# Altium schematic symbol library B105digital_ic.SchLib: 36 symbols (part 2 of 4)
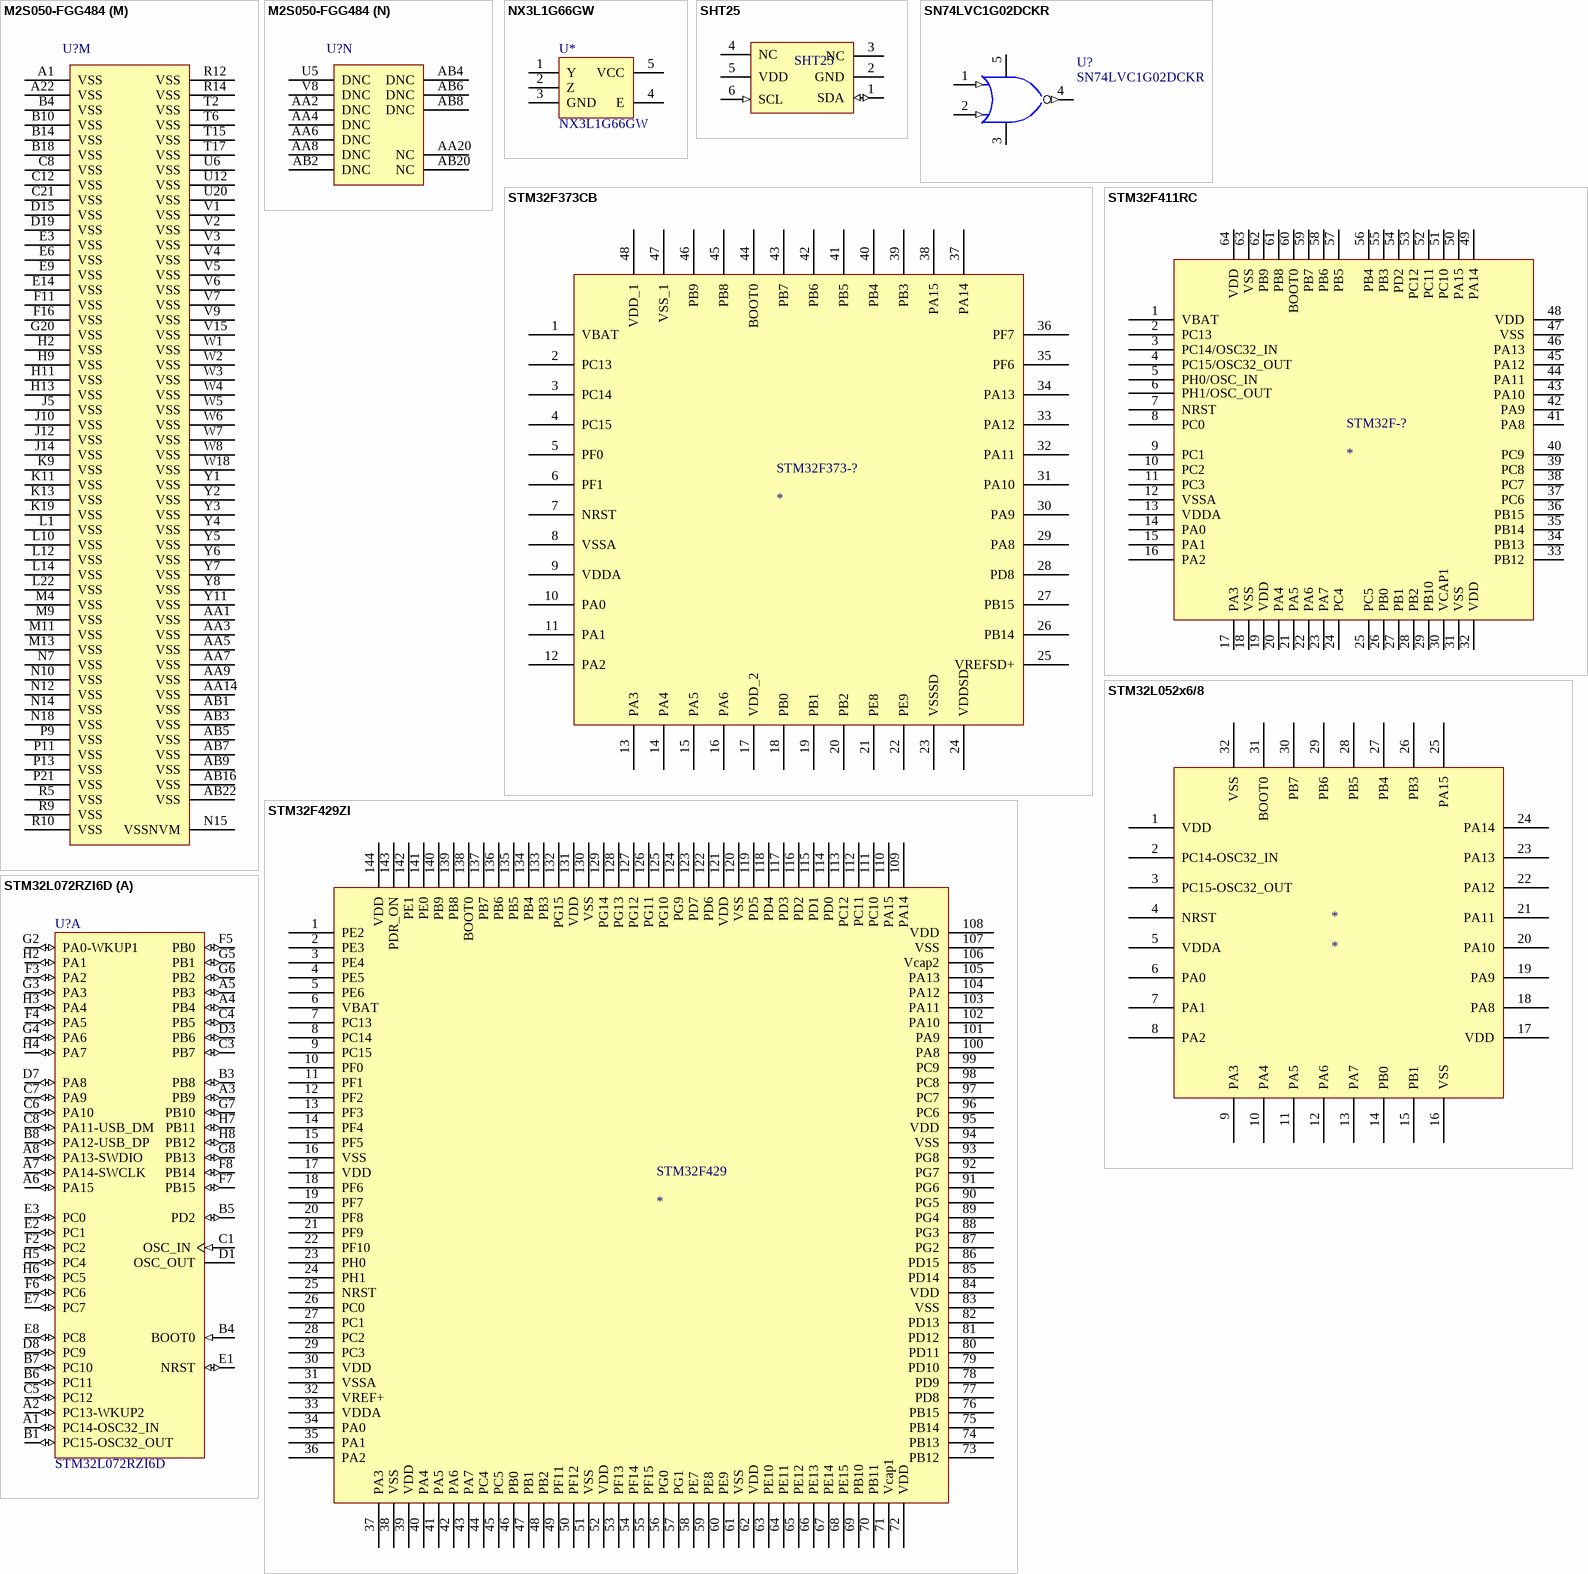
[diagram p5: symbols M2S050-FGG484 to STM32L072RZI6D]
## M2S050-FGG484
designator U?
SmartFusion 2 SoC FPGA, ARM Cortex-M3, 50 K LUTs, 267 User I/O, Design Security, 0 to 85 degC, 484-Ball BGA, RoHS; Manufacturer: Microsemi; PartNumber: M2S050-FGG484; DDR Controllers (Count x Width): 2x36; eNVM (K Bytes): 256; eSRAM (K Bytes): 64; eSRAM (K Bytes) Non SECDED: 80; Math Blocks (18x18): 72; Maximum Logic Elements: 56,340; PLLs and CCCs: 6; SERDES Lanes: 8; Total RAM (K bits): 1314; Total User I/O: 267; DatasheetVersion: Rev. 4; PackageVersion: Rev. 48, 11/2013; PackageReference: FG-484; PackageDescription: 484-Ball Fine Pitch Ball Array Package, Body 23 x 23 mm, Pitch 1 mm; RoHS: TRUE; Temperature Range: 0 to 85 degC; Mounting Technology: Surface Mount; ComponentLink1Description: Manufacturer URL; ComponentLink1URL: http://www.microsemi.com/; ComponentLink2Description: Datasheet; ComponentLink2URL: http://www.microsemi.com/document-portal/doc_download/130717-smartfusion2-datasheet; ComponentLink3Description: Package Specification; ComponentLink3URL: http://www.microsemi.com/document-portal/doc_download/131095-package-mechanical-drawings
footprint MCSM-FG-484 (BGA, 484-Balls, Body 23x23mm, Pitch 1mm)
part A pins: A3 DDRIO72NB0 (io) "The double data input output (DDRIO) is a multi-standard I/O optimized for LPDDR/DDR2/DDR3 performance. In SmartFusion2 devices there are two DDR subsystems: the fabric DDR and MSS DDR controllers. All DDRIOs can be (See Datasheet)", A4 DDRIO72PB0 (io) "The double data input output (DDRIO) is a multi-standard I/O optimized for LPDDR/DDR2/DDR3 performance. In SmartFusion2 devices there are two DDR subsystems: the fabric DDR and MSS DDR controllers. All DDRIOs can be (See Datasheet)", A5 DDRIO67NB0 (io) "The double data input output (DDRIO) is a multi-standard I/O optimized for LPDDR/DDR2/DDR3 performance. In SmartFusion2 devices there are two DDR subsystems: the fabric DDR and MSS DDR controllers. All DDRIOs can be (See Datasheet)", A6 DDRIO66NB0 (io) "The double data input output (DDRIO) is a multi-standard I/O optimized for LPDDR/DDR2/DDR3 performance. In SmartFusion2 devices there are two DDR subsystems: the fabric DDR and MSS DDR controllers. All DDRIOs can be (See Datasheet)", A7 DDRIO87PB0/CCC_NW1_CLKI3/MDDR_DQ_ECC1 (io), A8 DDRIO87NB0/MDDR_DQ_ECC0 (io), A9 DDRIO86NB0/MDDR_DQ1 (io), A10 DDRIO83PB0/MDDR_DM_RDQS0 (io), A11 DDRIO83NB0/MDDR_DQ4 (io), A12 DDRIO80PB0/MDDR_DQ8 (io), A13 DDRIO80NB0/MDDR_DQ9 (io), A14 DDRIO76PB0/GB12/CCC_NE1_CLKI2/MDDR_DQ12 (io), A15 DDRIO76NB0/MDDR_DQ13 (io), A16 DDRIO59PB0/MDDR_CLK (io), A17 DDRIO59NB0/MDDR_CLK_N (io), A18 DDRIO58PB0/MDDR_BA0 (io), A19 DDRIO58NB0/MDDR_BA1 (io), A20 DDRIO54NB0/MDDR_ADDR6 (io), A21 DDRIO51PB0/MDDR_ADDR10 (io), B5 DDRIO67PB0 (io) "The double data input output (DDRIO) is a multi-standard I/O optimized for LPDDR/DDR2/DDR3 performance. In SmartFusion2 devices there are two DDR subsystems: the fabric DDR and MSS DDR controllers. All DDRIOs can be (See Datasheet)", B6 DDRIO66PB0 (io) "The double data input output (DDRIO) is a multi-standard I/O optimized for LPDDR/DDR2/DDR3 performance. In SmartFusion2 devices there are two DDR subsystems: the fabric DDR and MSS DDR controllers. All DDRIOs can be (See Datasheet)", B7 DDRIO90NB0/MDDR_DQS_ECC_N (io), B9 DDRIO86PB0/MDDR_DQ0 (io), B11 DDRIO84PB0/MDDR_DQS0 (io), B13 DDRIO78PB0/GB8/CCC_NE0_CLKI3/MDDR_DQS1 (io), B15 DDRIO61PB0/MDDR_CKE (io), B17 DDRIO57NB0/MDDR_ADDR0 (io), B19 DDRIO54PB0/MDDR_ADDR5 (io), B21 DDRIO51NB0/MDDR_ADDR11 (io), C5 DDRIO74PB0 (io) "The double data input output (DDRIO) is a multi-standard I/O optimized for LPDDR/DDR2/DDR3 performance. In SmartFusion2 devices there are two DDR subsystems: the fabric DDR and MSS DDR controllers. All DDRIOs can be (See Datasheet)", C7 DDRIO90PB0/MDDR_DQS_ECC (io), C9 DDRIO88NB0 (io) "The double data input output (DDRIO) is a multi-standard I/O optimized for LPDDR/DDR2/DDR3 performance. In SmartFusion2 devices there are two DDR subsystems: the fabric DDR and MSS DDR controllers. All DDRIOs can be (See Datasheet)", C11 DDRIO84NB0/MDDR_DQS0_N (io), C13 DDRIO78NB0/MDDR_DQS1_N (io), C15 DDRIO61NB0/MDDR_CS_N (io), C16 DDRIO57PB0/MDDR_BA2 (io), C17 DDRIO55PB0/MDDR_ADDR3 (io), C18 DDRIO55NB0/MDDR_ADDR4 (io), C19 DDRIO53NB0/MDDR_ADDR7 (io), C20 DDRIO53PB0/MDDR_ODT (io), D6 DDRIO74NB0 (io) "The double data input output (DDRIO) is a multi-standard I/O optimized for LPDDR/DDR2/DDR3 performance. In SmartFusion2 devices there are two DDR subsystems: the fabric DDR and MSS DDR controllers. All DDRIOs can be (See Datasheet)", D8 DDRIO89NB0/MDDR_DM_RDQS_ECC (io), D9 DDRIO88PB0 (io) "The double data input output (DDRIO) is a multi-standard I/O optimized for LPDDR/DDR2/DDR3 performance. In SmartFusion2 devices there are two DDR subsystems: the fabric DDR and MSS DDR controllers. All DDRIOs can be (See Datasheet)", D10 DDRIO82PB0/MDDR_DQ5 (io), D11 DDRIO82NB0/MDDR_DQ6 (io), D12 DDRIO79PB0/CCC_NE0_CLKI2/MDDR_DQ10 (io), D13 DDRIO79NB0/MDDR_DQ11 (io), D14 DDRIO75PB0/CCC_NE1_CLKI3/MDDR_DQ14 (io), D16 DDRIO56PB0/MDDR_ADDR1 (io), D18 DDRIO49PB0/MDDR_ADDR14 (io), D20 DDRIO50NB0/MDDR_ADDR13 (io), E7 DDRIO92PB0/MDDR_TMATCH_ECC_OUT (io), E8 DDRIO89PB0/MDDR_TMATCH_ECC_IN (io), E10 DDRIO85NB0/MDDR_DQ3 (io), E12 DDRIO81PB0/MDDR_DQ7 (io), E13 DDRIO75NB0/MDDR_DQ15 (io), E15 DDRIO60PB0/MDDR_RESET_N (io), E16 DDRIO56NB0/MDDR_ADDR2 (io), E17 DDRIO52PB0/MDDR_ADDR8 (io), E18 DDRIO49NB0/MDDR_ADDR15 (io), E19 DDRIO50PB0/MDDR_ADDR12 (io), F8 DDRIO92NB0/CCC_NW0_CLKI2 (io), F10 DDRIO85PB0/MDDR_DQ2 (io), F12 DDRIO81NB0/MDDR_TMATCH_0_OUT (io), F14 DDRIO62PB0/MDDR_RAS_N (io), F15 DDRIO60NB0/MDDR_CAS_N (io), F17 DDRIO52NB0/MDDR_ADDR9 (io), G12 DDRIO77PB0/MDDR_TMATCH_0_IN (io), G13 DDRIO77NB0/MDDR_DM_RDQS1 (io), G14 DDRIO62NB0/MDDR_WE_N (io)
part B pins: B22 MSIO47NB1/MMUART_0_CLK/GPIO_29_B (io), C22 MSIO47PB1/MMUART_0_RXD/GPIO_28_B (io), D21 MSI46NB1/MMUART_0_TXD/GPIO_27_B (io), E21 MSIO45NB1/MMUART_0_DCD/GPIO_22_B (io), E22 MSIO45PB1/MMUART_0_RI/GPIO_21_B (io), F18 MSIO44NB1/MMUART_0_DSR/GPIO_20_B (io), F19 MSIO44PB1/MMUART_0_CTS/GPIO_19_B (io), F20 MSIO43NB1/MMUART_0_DTR/GPIO_18_B (io), F21 MSIO43PB1/MMUART_0_RTS/GPIO_17_B (io), G16 MSIO48NB1/I2C_0_SCL/GPIO_31_B (io), G17 MSIO48PB1/I2C_0_SDA/GPIO_30_B (io), G18 MSIO42NB1/MMUART_1_RXD/GPIO_26_B (io), G19 MSIO42PB1/GB14/VCCC_SE1_CLKI/MMUART_1_CLK/GPIO_25_B (io), G21 MSIO40NB1/MMUART_1_DCD/GPIO_16_B (io), G22 MSIO40PB1/CCC_NE1_CLKI1/MMUART_1_RI/GPIO_15_B (io), H19 MSIO41NB1/MMUART_1_TXD/GPIO_24_B (io), H20 MSIO41PB1/GB10/VCCC_SE0_CLKI (io), H21 MSIO38NB1/MMUART_1_DTR/GPIO_12_B (io), H22 MSIO38PB1/MMUART_1_RTS/GPIO_11_B (io), J19 MSIO39NB1/MMUART_1_DSR/GPIO_14_B (io), J20 MSIO39PB1/CCC_NE0_CLKI1/MMUART_1_CTS/GPIO_13_B (io)
part C pins: J18 MSIO24NB3/SPI_1_SS3/GPIO_16_A (io), J22 MSIO20NB3/GB13/VCCC_SE1_CLKI/GPIO_26_A (io), K15 MSIO22NB3/SPI_0_SS2/GPIO_9_A (io), K16 MSIO23NB3/SPI_1_SS1/GPIO_14_A (io), K17 MSIO23PB3/SPI_0_SS3/GPIO_10_A (io), K18 MSIO24PB3/SPI_1_SS2/GPIO_15_A (io), K20 MSIO19NB3/SPI_1_SS7/GPIO_24_A (io), K21 MSIO19PB3/SPI_1_SS6/GPIO_23_A (io), K22 MSIO20PB3/GB9/VCCC_SE0_CLKI/GPIO_25_A (io), L16 MSIO22PB3/SPI_0_SS1/GPIO_8_A (io), L18 MSIO18NB3/SPI_1_SS5/GPIO_18_A (io), L19 MSIO18PB3/SPI_1_SS4/GPIO_17_A (io), L20 MSIO17NB3/SPI_1_SS0/GPIO_13_A (io), L21 MSIO17PB3/SPI_1_SDO/GPIO_12_A (io), M16 MSIO14PB3/SPI_0_SS4/GPIO_19_A (io), M17 MSIO14NB3/SPI_0_SS5/GPIO_20_A (io), M18 MSIO15PB3/SPI_0_SS6/GPIO_21_A (io), M19 MSIO15NB3/SPI_0_SS7/GPIO_22_A (io), M21 MSIO16PB3/SPI_1_CLK (io), M22 MSIO16NB3/SPI_1_SDI/GPIO_11_A (io), N16 MSIO8PB3/CAN_RX/GPIO_3_A (io), N17 MSIO8NB3/CAN_TX_EN_N/GPIO_4_A (io), N19 MSIO12PB3/SPI_0_CLK (io), N20 MSIO12NB3/SPI_0_SDI/GPIO_5_A (io), N21 MSIO13PB3/SPI_0_SDO/GPIO_6_A (io), N22 MSIO13NB3/SPI_0_SS0/GPIO_7_A (io), P16 MSIO7NB3/CAN_TX/GPIO_2_A (io), P17 MSIO6PB3 (io) "MSIOs provide programmable drive strength, weak pull-up, and weak-pulldown. In single ended mode, the I/O pair operates as two separate I/Os named P and N. Some of these pins are also multiplexed with integrated peripherals (See Datasheet)", P18 MSIO6NB3 (io) "MSIOs provide programmable drive strength, weak pull-up, and weak-pulldown. In single ended mode, the I/O pair operates as two separate I/Os named P and N. Some of these pins are also multiplexed with integrated peripherals (See Datasheet)", P22 MSIO11PB3/CCC_NE0_CLKI0/I2C_1_SDA/GPIO_0_A (io), R16 MSIO7PB3 (io) "MSIOs provide programmable drive strength, weak pull-up, and weak-pulldown. In single ended mode, the I/O pair operates as two separate I/Os named P and N. Some of these pins are also multiplexed with integrated peripherals (See Datasheet)", R17 MSIO1PB3 (io) "MSIOs provide programmable drive strength, weak pull-up, and weak-pulldown. In single ended mode, the I/O pair operates as two separate I/Os named P and N. Some of these pins are also multiplexed with integrated peripherals (See Datasheet)", R18 MSIO1NB3 (io) "MSIOs provide programmable drive strength, weak pull-up, and weak-pulldown. In single ended mode, the I/O pair operates as two separate I/Os named P and N. Some of these pins are also multiplexed with integrated peripherals (See Datasheet)", R22 MSIO11NB3/CCC_NE1_CLKI0/I2C_1_SCL/GPIO_1_A (io), T18 MSIO2PB3 (io) "MSIOs provide programmable drive strength, weak pull-up, and weak-pulldown. In single ended mode, the I/O pair operates as two separate I/Os named P and N. Some of these pins are also multiplexed with integrated peripherals (See Datasheet)", T19 MSIO2NB3 (io) "MSIOs provide programmable drive strength, weak pull-up, and weak-pulldown. In single ended mode, the I/O pair operates as two separate I/Os named P and N. Some of these pins are also multiplexed with integrated peripherals (See Datasheet)", T20 MSIO5PB3 (io) "MSIOs provide programmable drive strength, weak pull-up, and weak-pulldown. In single ended mode, the I/O pair operates as two separate I/Os named P and N. Some of these pins are also multiplexed with integrated peripherals (See Datasheet)", T21 MSIO5NB3 (io) "MSIOs provide programmable drive strength, weak pull-up, and weak-pulldown. In single ended mode, the I/O pair operates as two separate I/Os named P and N. Some of these pins are also multiplexed with integrated peripherals (See Datasheet)", U19 MSIO0PB3 (io) "MSIOs provide programmable drive strength, weak pull-up, and weak-pulldown. In single ended mode, the I/O pair operates as two separate I/Os named P and N. Some of these pins are also multiplexed with integrated peripherals (See Datasheet)", U21 MSIO4NB3 (io) "MSIOs provide programmable drive strength, weak pull-up, and weak-pulldown. In single ended mode, the I/O pair operates as two separate I/Os named P and N. Some of these pins are also multiplexed with integrated peripherals (See Datasheet)", U22 MSIO4PB3 (io) "MSIOs provide programmable drive strength, weak pull-up, and weak-pulldown. In single ended mode, the I/O pair operates as two separate I/Os named P and N. Some of these pins are also multiplexed with integrated peripherals (See Datasheet)", V19 MSIO0NB3 (io) "MSIOs provide programmable drive strength, weak pull-up, and weak-pulldown. In single ended mode, the I/O pair operates as two separate I/Os named P and N. Some of these pins are also multiplexed with integrated peripherals (See Datasheet)", V21 MSIO3NB3 (io) "MSIOs provide programmable drive strength, weak pull-up, and weak-pulldown. In single ended mode, the I/O pair operates as two separate I/Os named P and N. Some of these pins are also multiplexed with integrated peripherals (See Datasheet)", V22 MSIO3PB3 (io) "MSIOs provide programmable drive strength, weak pull-up, and weak-pulldown. In single ended mode, the I/O pair operates as two separate I/Os named P and N. Some of these pins are also multiplexed with integrated peripherals (See Datasheet)"
part D pins: AA10 DDRIO149PB5 (io) "The double data input output (DDRIO) is a multi-standard I/O optimized for LPDDR/DDR2/DDR3 performance. In SmartFusion2 devices there are two DDR subsystems: the fabric DDR and MSS DDR controllers. All DDRIOs can be (See Datasheet)", AA11 DDRIO152PB5/GB3/CCC_SW0_CLKI3 (io), AA12 DDRIO157PB5 (io) "The double data input output (DDRIO) is a multi-standard I/O optimized for LPDDR/DDR2/DDR3 performance. In SmartFusion2 devices there are two DDR subsystems: the fabric DDR and MSS DDR controllers. All DDRIOs can be (See Datasheet)", AA13 DDRIO162PB5 (io) "The double data input output (DDRIO) is a multi-standard I/O optimized for LPDDR/DDR2/DDR3 performance. In SmartFusion2 devices there are two DDR subsystems: the fabric DDR and MSS DDR controllers. All DDRIOs can be (See Datasheet)", AA15 DDRIO164NB5 (io) "The double data input output (DDRIO) is a multi-standard I/O optimized for LPDDR/DDR2/DDR3 performance. In SmartFusion2 devices there are two DDR subsystems: the fabric DDR and MSS DDR controllers. All DDRIOs can be (See Datasheet)", AA16 DDRIO167PB5 (io) "The double data input output (DDRIO) is a multi-standard I/O optimized for LPDDR/DDR2/DDR3 performance. In SmartFusion2 devices there are two DDR subsystems: the fabric DDR and MSS DDR controllers. All DDRIOs can be (See Datasheet)", AA17 DDRIO167NB5 (io) "The double data input output (DDRIO) is a multi-standard I/O optimized for LPDDR/DDR2/DDR3 performance. In SmartFusion2 devices there are two DDR subsystems: the fabric DDR and MSS DDR controllers. All DDRIOs can be (See Datasheet)", AA18 DDRIO174NB5 (io) "The double data input output (DDRIO) is a multi-standard I/O optimized for LPDDR/DDR2/DDR3 performance. In SmartFusion2 devices there are two DDR subsystems: the fabric DDR and MSS DDR controllers. All DDRIOs can be (See Datasheet)", AB10 DDRIO149NB5 (io) "The double data input output (DDRIO) is a multi-standard I/O optimized for LPDDR/DDR2/DDR3 performance. In SmartFusion2 devices there are two DDR subsystems: the fabric DDR and MSS DDR controllers. All DDRIOs can be (See Datasheet)", AB11 DDRIO152NB5/GB7/CCC_SW1_CLKI2 (io), AB13 DDRIO161PB5/GB11/VCCC_SE0_CLKI (io), AB14 DDRIO161NB5 (io) "The double data input output (DDRIO) is a multi-standard I/O optimized for LPDDR/DDR2/DDR3 performance. In SmartFusion2 devices there are two DDR subsystems: the fabric DDR and MSS DDR controllers. All DDRIOs can be (See Datasheet)", AB15 DDRIO164PB5/VCCC_SE1_CLKI (io), AB17 DDRIO174PB5 (io) "The double data input output (DDRIO) is a multi-standard I/O optimized for LPDDR/DDR2/DDR3 performance. In SmartFusion2 devices there are two DDR subsystems: the fabric DDR and MSS DDR controllers. All DDRIOs can be (See Datasheet)", AB18 DDRIO177PB5 (io) "The double data input output (DDRIO) is a multi-standard I/O optimized for LPDDR/DDR2/DDR3 performance. In SmartFusion2 devices there are two DDR subsystems: the fabric DDR and MSS DDR controllers. All DDRIOs can be (See Datasheet)", AB19 DDRIO177NB5 (io) "The double data input output (DDRIO) is a multi-standard I/O optimized for LPDDR/DDR2/DDR3 performance. In SmartFusion2 devices there are two DDR subsystems: the fabric DDR and MSS DDR controllers. All DDRIOs can be (See Datasheet)", T13 DDRIO166NB5 (io) "The double data input output (DDRIO) is a multi-standard I/O optimized for LPDDR/DDR2/DDR3 performance. In SmartFusion2 devices there are two DDR subsystems: the fabric DDR and MSS DDR controllers. All DDRIOs can be (See Datasheet)", T16 DDRIO186NB5 (io) "The double data input output (DDRIO) is a multi-standard I/O optimized for LPDDR/DDR2/DDR3 performance. In SmartFusion2 devices there are two DDR subsystems: the fabric DDR and MSS DDR controllers. All DDRIOs can be (See Datasheet)", U10 DDRIO154PB5 (io) "The double data input output (DDRIO) is a multi-standard I/O optimized for LPDDR/DDR2/DDR3 performance. In SmartFusion2 devices there are two DDR subsystems: the fabric DDR and MSS DDR controllers. All DDRIOs can be (See Datasheet)", U11 DDRIO154NB5 (io) "The double data input output (DDRIO) is a multi-standard I/O optimized for LPDDR/DDR2/DDR3 performance. In SmartFusion2 devices there are two DDR subsystems: the fabric DDR and MSS DDR controllers. All DDRIOs can be (See Datasheet)", U13 DDRIO166PB5 (io) "The double data input output (DDRIO) is a multi-standard I/O optimized for LPDDR/DDR2/DDR3 performance. In SmartFusion2 devices there are two DDR subsystems: the fabric DDR and MSS DDR controllers. All DDRIOs can be (See Datasheet)", U14 DDRIO176PB5 (io) "The double data input output (DDRIO) is a multi-standard I/O optimized for LPDDR/DDR2/DDR3 performance. In SmartFusion2 devices there are two DDR subsystems: the fabric DDR and MSS DDR controllers. All DDRIOs can be (See Datasheet)", U15 DDRIO176NB5 (io) "The double data input output (DDRIO) is a multi-standard I/O optimized for LPDDR/DDR2/DDR3 performance. In SmartFusion2 devices there are two DDR subsystems: the fabric DDR and MSS DDR controllers. All DDRIOs can be (See Datasheet)", U16 DDRIO186PB5 (io) "The double data input output (DDRIO) is a multi-standard I/O optimized for LPDDR/DDR2/DDR3 performance. In SmartFusion2 devices there are two DDR subsystems: the fabric DDR and MSS DDR controllers. All DDRIOs can be (See Datasheet)", U17 DDRIO189NB5 (io) "The double data input output (DDRIO) is a multi-standard I/O optimized for LPDDR/DDR2/DDR3 performance. In SmartFusion2 devices there are two DDR subsystems: the fabric DDR and MSS DDR controllers. All DDRIOs can be (See Datasheet)", U18 DDRIO190NB5 (io) "The double data input output (DDRIO) is a multi-standard I/O optimized for LPDDR/DDR2/DDR3 performance. In SmartFusion2 devices there are two DDR subsystems: the fabric DDR and MSS DDR controllers. All DDRIOs can be (See Datasheet)", V11 DDRIO156PB5 (io) "The double data input output (DDRIO) is a multi-standard I/O optimized for LPDDR/DDR2/DDR3 performance. In SmartFusion2 devices there are two DDR subsystems: the fabric DDR and MSS DDR controllers. All DDRIOs can be (See Datasheet)", V12 DDRIO159NB5 (io) "The double data input output (DDRIO) is a multi-standard I/O optimized for LPDDR/DDR2/DDR3 performance. In SmartFusion2 devices there are two DDR subsystems: the fabric DDR and MSS DDR controllers. All DDRIOs can be (See Datasheet)", V13 DDRIO171PB5 (io) "The double data input output (DDRIO) is a multi-standard I/O optimized for LPDDR/DDR2/DDR3 performance. In SmartFusion2 devices there are two DDR subsystems: the fabric DDR and MSS DDR controllers. All DDRIOs can be (See Datasheet)", V14 DDRIO171NB5 (io) "The double data input output (DDRIO) is a multi-standard I/O optimized for LPDDR/DDR2/DDR3 performance. In SmartFusion2 devices there are two DDR subsystems: the fabric DDR and MSS DDR controllers. All DDRIOs can be (See Datasheet)", V16 DDRIO184NB5 (io) "The double data input output (DDRIO) is a multi-standard I/O optimized for LPDDR/DDR2/DDR3 performance. In SmartFusion2 devices there are two DDR subsystems: the fabric DDR and MSS DDR controllers. All DDRIOs can be (See Datasheet)", V17 DDRIO189PB5 (io) "The double data input output (DDRIO) is a multi-standard I/O optimized for LPDDR/DDR2/DDR3 performance. In SmartFusion2 devices there are two DDR subsystems: the fabric DDR and MSS DDR controllers. All DDRIOs can be (See Datasheet)", V18 DDRIO190PB5 (io) "The double data input output (DDRIO) is a multi-standard I/O optimized for LPDDR/DDR2/DDR3 performance. In SmartFusion2 devices there are two DDR subsystems: the fabric DDR and MSS DDR controllers. All DDRIOs can be (See Datasheet)", W9 DDRIO148PB5/PROBE_A (io), W10 DDRIO151PB5 (io) "The double data input output (DDRIO) is a multi-standard I/O optimized for LPDDR/DDR2/DDR3 performance. In SmartFusion2 devices there are two DDR subsystems: the fabric DDR and MSS DDR controllers. All DDRIOs can be (See Datasheet)", W11 DDRIO156NB5 (io) "The double data input output (DDRIO) is a multi-standard I/O optimized for LPDDR/DDR2/DDR3 performance. In SmartFusion2 devices there are two DDR subsystems: the fabric DDR and MSS DDR controllers. All DDRIOs can be (See Datasheet)", W12 DDRIO159PB5/CCC_SW1_CLKI3 (io), W14 DDRIO169NB5 (io) "The double data input output (DDRIO) is a multi-standard I/O optimized for LPDDR/DDR2/DDR3 performance. In SmartFusion2 devices there are two DDR subsystems: the fabric DDR and MSS DDR controllers. All DDRIOs can be (See Datasheet)", W15 DDRIO172NB5 (io) "The double data input output (DDRIO) is a multi-standard I/O optimized for LPDDR/DDR2/DDR3 performance. In SmartFusion2 devices there are two DDR subsystems: the fabric DDR and MSS DDR controllers. All DDRIOs can be (See Datasheet)", W16 DDRIO184PB5 (io) "The double data input output (DDRIO) is a multi-standard I/O optimized for LPDDR/DDR2/DDR3 performance. In SmartFusion2 devices there are two DDR subsystems: the fabric DDR and MSS DDR controllers. All DDRIOs can be (See Datasheet)", W17 DDRIO182NB5 (io) "The double data input output (DDRIO) is a multi-standard I/O optimized for LPDDR/DDR2/DDR3 performance. In SmartFusion2 devices there are two DDR subsystems: the fabric DDR and MSS DDR controllers. All DDRIOs can be (See Datasheet)", W19 DDRIO187NB5 (io) "The double data input output (DDRIO) is a multi-standard I/O optimized for LPDDR/DDR2/DDR3 performance. In SmartFusion2 devices there are two DDR subsystems: the fabric DDR and MSS DDR controllers. All DDRIOs can be (See Datasheet)", Y9 DDRIO148NB5/PROBE_B (io), Y10 DDRIO151NB5 (io) "The double data input output (DDRIO) is a multi-standard I/O optimized for LPDDR/DDR2/DDR3 performance. In SmartFusion2 devices there are two DDR subsystems: the fabric DDR and MSS DDR controllers. All DDRIOs can be (See Datasheet)", Y12 DDRIO157NB5 (io) "The double data input output (DDRIO) is a multi-standard I/O optimized for LPDDR/DDR2/DDR3 performance. In SmartFusion2 devices there are two DDR subsystems: the fabric DDR and MSS DDR controllers. All DDRIOs can be (See Datasheet)", Y13 DDRIO162NB5 (io) "The double data input output (DDRIO) is a multi-standard I/O optimized for LPDDR/DDR2/DDR3 performance. In SmartFusion2 devices there are two DDR subsystems: the fabric DDR and MSS DDR controllers. All DDRIOs can be (See Datasheet)", Y14 DDRIO169PB5 (io) "The double data input output (DDRIO) is a multi-standard I/O optimized for LPDDR/DDR2/DDR3 performance. In SmartFusion2 devices there are two DDR subsystems: the fabric DDR and MSS DDR controllers. All DDRIOs can be (See Datasheet)", Y15 DDRIO172PB5 (io) "The double data input output (DDRIO) is a multi-standard I/O optimized for LPDDR/DDR2/DDR3 performance. In SmartFusion2 devices there are two DDR subsystems: the fabric DDR and MSS DDR controllers. All DDRIOs can be (See Datasheet)", Y17 DDRIO182PB5 (io) "The double data input output (DDRIO) is a multi-standard I/O optimized for LPDDR/DDR2/DDR3 performance. In SmartFusion2 devices there are two DDR subsystems: the fabric DDR and MSS DDR controllers. All DDRIOs can be (See Datasheet)", Y18 DDRIO181PB5 (io) "The double data input output (DDRIO) is a multi-standard I/O optimized for LPDDR/DDR2/DDR3 performance. In SmartFusion2 devices there are two DDR subsystems: the fabric DDR and MSS DDR controllers. All DDRIOs can be (See Datasheet)", Y19 DDRIO181NB5 (io) "The double data input output (DDRIO) is a multi-standard I/O optimized for LPDDR/DDR2/DDR3 performance. In SmartFusion2 devices there are two DDR subsystems: the fabric DDR and MSS DDR controllers. All DDRIOs can be (See Datasheet)", Y20 DDRIO187PB5 (io) "The double data input output (DDRIO) is a multi-standard I/O optimized for LPDDR/DDR2/DDR3 performance. In SmartFusion2 devices there are two DDR subsystems: the fabric DDR and MSS DDR controllers. All DDRIOs can be (See Datasheet)"
part E pins: T1 MSIOD145NB6 (io) "MSIOD is very similar to MSIO, but drops 3.3 V and hot-plug support and adds pre-emphasis, in order to achieve higher speeds. MSIODs provide programmable drive strength, weak pull-up, and weak pull-down. MSIOD I/O cells (See Datasheet)", U1 MSIOD145PB6 (io) "MSIOD is very similar to MSIO, but drops 3.3 V and hot-plug support and adds pre-emphasis, in order to achieve higher speeds. MSIODs provide programmable drive strength, weak pull-up, and weak pull-down. MSIOD I/O cells (See Datasheet)", U3 MSIOD146PB6 (io) "MSIOD is very similar to MSIO, but drops 3.3 V and hot-plug support and adds pre-emphasis, in order to achieve higher speeds. MSIODs provide programmable drive strength, weak pull-up, and weak pull-down. MSIOD I/O cells (See Datasheet)", U4 MSIOD146NB6 (io) "MSIOD is very similar to MSIO, but drops 3.3 V and hot-plug support and adds pre-emphasis, in order to achieve higher speeds. MSIODs provide programmable drive strength, weak pull-up, and weak pull-down. MSIOD I/O cells (See Datasheet)"
part F pins: K1 MSIOD121PB7/CCC_SW0_CLKI0 (io), K2 MSIOD121NB7 (io) "MSIOD is very similar to MSIO, but drops 3.3 V and hot-plug support and adds pre-emphasis, in order to achieve higher speeds. MSIODs provide programmable drive strength, weak pull-up, and weak pull-down. MSIOD I/O cells (See Datasheet)", K4 MSIOD118PB7/GB5/CCC_SW1_CLKI1 (io), K5 MSIOD118NB7 (io) "MSIOD is very similar to MSIO, but drops 3.3 V and hot-plug support and adds pre-emphasis, in order to achieve higher speeds. MSIODs provide programmable drive strength, weak pull-up, and weak pull-down. MSIOD I/O cells (See Datasheet)", K8 MSIOD119PB7/GB1/CCC_SW0_CLKI1 (io), L2 MSIOD122PB7 (io) "MSIOD is very similar to MSIO, but drops 3.3 V and hot-plug support and adds pre-emphasis, in order to achieve higher speeds. MSIODs provide programmable drive strength, weak pull-up, and weak pull-down. MSIOD I/O cells (See Datasheet)", L3 MSIOD122NB7 (io) "MSIOD is very similar to MSIO, but drops 3.3 V and hot-plug support and adds pre-emphasis, in order to achieve higher speeds. MSIODs provide programmable drive strength, weak pull-up, and weak pull-down. MSIOD I/O cells (See Datasheet)", L4 MSIOD123PB7 (io) "MSIOD is very similar to MSIO, but drops 3.3 V and hot-plug support and adds pre-emphasis, in order to achieve higher speeds. MSIODs provide programmable drive strength, weak pull-up, and weak pull-down. MSIOD I/O cells (See Datasheet)", L5 MSIOD123NB7 (io) "MSIOD is very similar to MSIO, but drops 3.3 V and hot-plug support and adds pre-emphasis, in order to achieve higher speeds. MSIODs provide programmable drive strength, weak pull-up, and weak pull-down. MSIOD I/O cells (See Datasheet)", L7 MSIOD120NB7 (io) "MSIOD is very similar to MSIO, but drops 3.3 V and hot-plug support and adds pre-emphasis, in order to achieve higher speeds. MSIODs provide programmable drive strength, weak pull-up, and weak pull-down. MSIOD I/O cells (See Datasheet)", L8 MSIOD119NB7 (io) "MSIOD is very similar to MSIO, but drops 3.3 V and hot-plug support and adds pre-emphasis, in order to achieve higher speeds. MSIODs provide programmable drive strength, weak pull-up, and weak pull-down. MSIOD I/O cells (See Datasheet)", M1 MSIOD128NB7 (io) "MSIOD is very similar to MSIO, but drops 3.3 V and hot-plug support and adds pre-emphasis, in order to achieve higher speeds. MSIODs provide programmable drive strength, weak pull-up, and weak pull-down. MSIOD I/O cells (See Datasheet)", M2 MSIOD126NB7 (io) "MSIOD is very similar to MSIO, but drops 3.3 V and hot-plug support and adds pre-emphasis, in order to achieve higher speeds. MSIODs provide programmable drive strength, weak pull-up, and weak pull-down. MSIOD I/O cells (See Datasheet)", M3 MSIOD126PB7 (io) "MSIOD is very similar to MSIO, but drops 3.3 V and hot-plug support and adds pre-emphasis, in order to achieve higher speeds. MSIODs provide programmable drive strength, weak pull-up, and weak pull-down. MSIOD I/O cells (See Datasheet)", M5 MSIOD124PB7 (io) "MSIOD is very similar to MSIO, but drops 3.3 V and hot-plug support and adds pre-emphasis, in order to achieve higher speeds. MSIODs provide programmable drive strength, weak pull-up, and weak pull-down. MSIOD I/O cells (See Datasheet)", M6 MSIOD124NB7 (io) "MSIOD is very similar to MSIO, but drops 3.3 V and hot-plug support and adds pre-emphasis, in order to achieve higher speeds. MSIODs provide programmable drive strength, weak pull-up, and weak pull-down. MSIOD I/O cells (See Datasheet)", M7 MSIOD120PB7/CCC_SW1_CLKI0 (io), M8 MSIOD131NB7 (io) "MSIOD is very similar to MSIO, but drops 3.3 V and hot-plug support and adds pre-emphasis, in order to achieve higher speeds. MSIODs provide programmable drive strength, weak pull-up, and weak pull-down. MSIOD I/O cells (See Datasheet)", N1 MSIOD128PB7 (io) "MSIOD is very similar to MSIO, but drops 3.3 V and hot-plug support and adds pre-emphasis, in order to achieve higher speeds. MSIODs provide programmable drive strength, weak pull-up, and weak pull-down. MSIOD I/O cells (See Datasheet)", N3 MSIOD127PB7 (io) "MSIOD is very similar to MSIO, but drops 3.3 V and hot-plug support and adds pre-emphasis, in order to achieve higher speeds. MSIODs provide programmable drive strength, weak pull-up, and weak pull-down. MSIOD I/O cells (See Datasheet)", N4 MSIOD127NB7 (io) "MSIOD is very similar to MSIO, but drops 3.3 V and hot-plug support and adds pre-emphasis, in order to achieve higher speeds. MSIODs provide programmable drive strength, weak pull-up, and weak pull-down. MSIOD I/O cells (See Datasheet)", N5 MSIOD125PB7 (io) "MSIOD is very similar to MSIO, but drops 3.3 V and hot-plug support and adds pre-emphasis, in order to achieve higher speeds. MSIODs provide programmable drive strength, weak pull-up, and weak pull-down. MSIOD I/O cells (See Datasheet)", N6 MSIOD125NB7 (io) "MSIOD is very similar to MSIO, but drops 3.3 V and hot-plug support and adds pre-emphasis, in order to achieve higher speeds. MSIODs provide programmable drive strength, weak pull-up, and weak pull-down. MSIOD I/O cells (See Datasheet)", N8 MSIOD131PB7 (io) "MSIOD is very similar to MSIO, but drops 3.3 V and hot-plug support and adds pre-emphasis, in order to achieve higher speeds. MSIODs provide programmable drive strength, weak pull-up, and weak pull-down. MSIOD I/O cells (See Datasheet)", P1 MSIOD130PB7 (io) "MSIOD is very similar to MSIO, but drops 3.3 V and hot-plug support and adds pre-emphasis, in order to achieve higher speeds. MSIODs provide programmable drive strength, weak pull-up, and weak pull-down. MSIOD I/O cells (See Datasheet)", P2 MSIOD130NB7 (io) "MSIOD is very similar to MSIO, but drops 3.3 V and hot-plug support and adds pre-emphasis, in order to achieve higher speeds. MSIODs provide programmable drive strength, weak pull-up, and weak pull-down. MSIOD I/O cells (See Datasheet)", P3 MSIOD129NB7 (io) "MSIOD is very similar to MSIO, but drops 3.3 V and hot-plug support and adds pre-emphasis, in order to achieve higher speeds. MSIODs provide programmable drive strength, weak pull-up, and weak pull-down. MSIOD I/O cells (See Datasheet)", P4 MSIOD129PB7 (io) "MSIOD is very similar to MSIO, but drops 3.3 V and hot-plug support and adds pre-emphasis, in order to achieve higher speeds. MSIODs provide programmable drive strength, weak pull-up, and weak pull-down. MSIOD I/O cells (See Datasheet)", P6 MSIOD132PB7 (io) "MSIOD is very similar to MSIO, but drops 3.3 V and hot-plug support and adds pre-emphasis, in order to achieve higher speeds. MSIODs provide programmable drive strength, weak pull-up, and weak pull-down. MSIOD I/O cells (See Datasheet)", P7 MSIOD132NB7 (io) "MSIOD is very similar to MSIO, but drops 3.3 V and hot-plug support and adds pre-emphasis, in order to achieve higher speeds. MSIODs provide programmable drive strength, weak pull-up, and weak pull-down. MSIOD I/O cells (See Datasheet)", R1 MSIOD133NB7 (io) "MSIOD is very similar to MSIO, but drops 3.3 V and hot-plug support and adds pre-emphasis, in order to achieve higher speeds. MSIODs provide programmable drive strength, weak pull-up, and weak pull-down. MSIOD I/O cells (See Datasheet)", R2 MSIOD133PB7 (io) "MSIOD is very similar to MSIO, but drops 3.3 V and hot-plug support and adds pre-emphasis, in order to achieve higher speeds. MSIODs provide programmable drive strength, weak pull-up, and weak pull-down. MSIOD I/O cells (See Datasheet)", R3 MSIOD134PB7 (io) "MSIOD is very similar to MSIO, but drops 3.3 V and hot-plug support and adds pre-emphasis, in order to achieve higher speeds. MSIODs provide programmable drive strength, weak pull-up, and weak pull-down. MSIOD I/O cells (See Datasheet)", R4 MSIOD134NB7 (io) "MSIOD is very similar to MSIO, but drops 3.3 V and hot-plug support and adds pre-emphasis, in order to achieve higher speeds. MSIODs provide programmable drive strength, weak pull-up, and weak pull-down. MSIOD I/O cells (See Datasheet)", T3 MSIOD135NB7 (io) "MSIOD is very similar to MSIO, but drops 3.3 V and hot-plug support and adds pre-emphasis, in order to achieve higher speeds. MSIODs provide programmable drive strength, weak pull-up, and weak pull-down. MSIOD I/O cells (See Datasheet)", T4 MSIOD135PB7 (io) "MSIOD is very similar to MSIO, but drops 3.3 V and hot-plug support and adds pre-emphasis, in order to achieve higher speeds. MSIODs provide programmable drive strength, weak pull-up, and weak pull-down. MSIOD I/O cells (See Datasheet)"
part G pins: A2 MSIO101NB8 (io) "MSIOs provide programmable drive strength, weak pull-up, and weak-pulldown. In single ended mode, the I/O pair operates as two separate I/Os named P and N. Some of these pins are also multiplexed with integrated peripherals (See Datasheet)", B1 MSIO103NB8 (io) "MSIOs provide programmable drive strength, weak pull-up, and weak-pulldown. In single ended mode, the I/O pair operates as two separate I/Os named P and N. Some of these pins are also multiplexed with integrated peripherals (See Datasheet)", B2 MSIO101PB8 (io) "MSIOs provide programmable drive strength, weak pull-up, and weak-pulldown. In single ended mode, the I/O pair operates as two separate I/Os named P and N. Some of these pins are also multiplexed with integrated peripherals (See Datasheet)", B3 MSIO97NB8 (io) "MSIOs provide programmable drive strength, weak pull-up, and weak-pulldown. In single ended mode, the I/O pair operates as two separate I/Os named P and N. Some of these pins are also multiplexed with integrated peripherals (See Datasheet)", C1 MSIO103PB8 (io) "MSIOs provide programmable drive strength, weak pull-up, and weak-pulldown. In single ended mode, the I/O pair operates as two separate I/Os named P and N. Some of these pins are also multiplexed with integrated peripherals (See Datasheet)", C3 MSIO97PB8 (io) "MSIOs provide programmable drive strength, weak pull-up, and weak-pulldown. In single ended mode, the I/O pair operates as two separate I/Os named P and N. Some of these pins are also multiplexed with integrated peripherals (See Datasheet)", C4 MSIO96PB8 (io) "MSIOs provide programmable drive strength, weak pull-up, and weak-pulldown. In single ended mode, the I/O pair operates as two separate I/Os named P and N. Some of these pins are also multiplexed with integrated peripherals (See Datasheet)", D1 MSIO104PB8 (io) "MSIOs provide programmable drive strength, weak pull-up, and weak-pulldown. In single ended mode, the I/O pair operates as two separate I/Os named P and N. Some of these pins are also multiplexed with integrated peripherals (See Datasheet)", D2 MSIO104NB8 (io) "MSIOs provide programmable drive strength, weak pull-up, and weak-pulldown. In single ended mode, the I/O pair operates as two separate I/Os named P and N. Some of these pins are also multiplexed with integrated peripherals (See Datasheet)", D3 MSIO100PB8 (io) "MSIOs provide programmable drive strength, weak pull-up, and weak-pulldown. In single ended mode, the I/O pair operates as two separate I/Os named P and N. Some of these pins are also multiplexed with integrated peripherals (See Datasheet)", D4 MSIO100NB8 (io) "MSIOs provide programmable drive strength, weak pull-up, and weak-pulldown. In single ended mode, the I/O pair operates as two separate I/Os named P and N. Some of these pins are also multiplexed with integrated peripherals (See Datasheet)", D5 MSIO96NB8 (io) "MSIOs provide programmable drive strength, weak pull-up, and weak-pulldown. In single ended mode, the I/O pair operates as two separate I/Os named P and N. Some of these pins are also multiplexed with integrated peripherals (See Datasheet)", E1 MSIO105PB8 (io) "MSIOs provide programmable drive strength, weak pull-up, and weak-pulldown. In single ended mode, the I/O pair operates as two separate I/Os named P and N. Some of these pins are also multiplexed with integrated peripherals (See Datasheet)", E2 MSIO105NB8 (io) "MSIOs provide programmable drive strength, weak pull-up, and weak-pulldown. In single ended mode, the I/O pair operates as two separate I/Os named P and N. Some of these pins are also multiplexed with integrated peripherals (See Datasheet)", E4 MSIO102PB8 (io) "MSIOs provide programmable drive strength, weak pull-up, and weak-pulldown. In single ended mode, the I/O pair operates as two separate I/Os named P and N. Some of these pins are also multiplexed with integrated peripherals (See Datasheet)", E5 MSIO102NB8 (io) "MSIOs provide programmable drive strength, weak pull-up, and weak-pulldown. In single ended mode, the I/O pair operates as two separate I/Os named P and N. Some of these pins are also multiplexed with integrated peripherals (See Datasheet)", F2 MSIO110NB8 (io) "MSIOs provide programmable drive strength, weak pull-up, and weak-pulldown. In single ended mode, the I/O pair operates as two separate I/Os named P and N. Some of these pins are also multiplexed with integrated peripherals (See Datasheet)", F3 MSIO106PB8 (io) "MSIOs provide programmable drive strength, weak pull-up, and weak-pulldown. In single ended mode, the I/O pair operates as two separate I/Os named P and N. Some of these pins are also multiplexed with integrated peripherals (See Datasheet)", F4 MSIO106NB8 (io) "MSIOs provide programmable drive strength, weak pull-up, and weak-pulldown. In single ended mode, the I/O pair operates as two separate I/Os named P and N. Some of these pins are also multiplexed with integrated peripherals (See Datasheet)", F5 MSIO99PB8 (io) "MSIOs provide programmable drive strength, weak pull-up, and weak-pulldown. In single ended mode, the I/O pair operates as two separate I/Os named P and N. Some of these pins are also multiplexed with integrated peripherals (See Datasheet)", F6 MSIO99NB8 (io) "MSIOs provide programmable drive strength, weak pull-up, and weak-pulldown. In single ended mode, the I/O pair operates as two separate I/Os named P and N. Some of these pins are also multiplexed with integrated peripherals (See Datasheet)", G1 MSIO114NB8 (io) "MSIOs provide programmable drive strength, weak pull-up, and weak-pulldown. In single ended mode, the I/O pair operates as two separate I/Os named P and N. Some of these pins are also multiplexed with integrated peripherals (See Datasheet)", G2 MSIO110PB8 (io) "MSIOs provide programmable drive strength, weak pull-up, and weak-pulldown. In single ended mode, the I/O pair operates as two separate I/Os named P and N. Some of these pins are also multiplexed with integrated peripherals (See Datasheet)", G3 MSIO111NB8 (io) "MSIOs provide programmable drive strength, weak pull-up, and weak-pulldown. In single ended mode, the I/O pair operates as two separate I/Os named P and N. Some of these pins are also multiplexed with integrated peripherals (See Datasheet)", G5 MSIO98PB8 (io) "MSIOs provide programmable drive strength, weak pull-up, and weak-pulldown. In single ended mode, the I/O pair operates as two separate I/Os named P and N. Some of these pins are also multiplexed with integrated peripherals (See Datasheet)", G6 MSIO98NB8 (io) "MSIOs provide programmable drive strength, weak pull-up, and weak-pulldown. In single ended mode, the I/O pair operates as two separate I/Os named P and N. Some of these pins are also multiplexed with integrated peripherals (See Datasheet)", G7 MSIO107NB8 (io) "MSIOs provide programmable drive strength, weak pull-up, and weak-pulldown. In single ended mode, the I/O pair operates as two separate I/Os named P and N. Some of these pins are also multiplexed with integrated peripherals (See Datasheet)", H1 MSIO114PB8/GB6/CCC_NW1_CLKI1 (io), H3 MSIO111PB8 (io) "MSIOs provide programmable drive strength, weak pull-up, and weak-pulldown. In single ended mode, the I/O pair operates as two separate I/Os named P and N. Some of these pins are also multiplexed with integrated peripherals (See Datasheet)", H4 MSIO109PB8 (io) "MSIOs provide programmable drive strength, weak pull-up, and weak-pulldown. In single ended mode, the I/O pair operates as two separate I/Os named P and N. Some of these pins are also multiplexed with integrated peripherals (See Datasheet)", H5 MSIO109NB8 (io) "MSIOs provide programmable drive strength, weak pull-up, and weak-pulldown. In single ended mode, the I/O pair operates as two separate I/Os named P and N. Some of these pins are also multiplexed with integrated peripherals (See Datasheet)", H6 MSIO108PB8 (io) "MSIOs provide programmable drive strength, weak pull-up, and weak-pulldown. In single ended mode, the I/O pair operates as two separate I/Os named P and N. Some of these pins are also multiplexed with integrated peripherals (See Datasheet)", H7 MSIO107PB8 (io) "MSIOs provide programmable drive strength, weak pull-up, and weak-pulldown. In single ended mode, the I/O pair operates as two separate I/Os named P and N. Some of these pins are also multiplexed with integrated peripherals (See Datasheet)", J1 MSIO116PB8/CCC_NW1_CLKI0 (io), J2 MSIO116NB8 (io) "MSIOs provide programmable drive strength, weak pull-up, and weak-pulldown. In single ended mode, the I/O pair operates as two separate I/Os named P and N. Some of these pins are also multiplexed with integrated peripherals (See Datasheet)", J3 MSIO115PB8/GB2/CCC_NW0_CLKI1 (io), J4 MSIO115NB8 (io) "MSIOs provide programmable drive strength, weak pull-up, and weak-pulldown. In single ended mode, the I/O pair operates as two separate I/Os named P and N. Some of these pins are also multiplexed with integrated peripherals (See Datasheet)", J6 MSIO108NB8 (io) "MSIOs provide programmable drive strength, weak pull-up, and weak-pulldown. In single ended mode, the I/O pair operates as two separate I/Os named P and N. Some of these pins are also multiplexed with integrated peripherals (See Datasheet)", K6 MSIO117PB8/CCC_NW0_CLKI0 (io), K7 MSIO117NB8 (io) "MSIOs provide programmable drive strength, weak pull-up, and weak-pulldown. In single ended mode, the I/O pair operates as two separate I/Os named P and N. Some of these pins are also multiplexed with integrated peripherals (See Datasheet)"
part H pins: AA22 JTAGSEL (in) "JTAG controller selection. If JTAGSEL is pulled High, an external TAP controller connects to the JTAG interface-system controller TAP. If JTAGSEL is pulled Low, an external TAP controller connects to either the Cortex-M3 (See Datasheet)", V20 JTAG_TMS/M3_TMS/M3_SWDIO (io), W20 JTAG_TCK/M3_TCK (in), W22 JTAG_TDI/M3_TDI (in), Y21 JTAG_TDO/M3_TDO/M3_SWO (out), Y22 JTAG_TRSTB/M3_TRSTB (in)
part I pins: AA21 XTLOSC_MAIN_EXTAL "Crystal connection or external RC network.", AB21 XTLOSC_MAIN_XTAL "Input clock from the main crystal oscillator.", D7 MDDR_IMP_CALIB "Pulled down with resistor depending on voltage/standard: DDR2 - 150 Ohms, DDR3 1.5 V - 240 Ohms, LPDDR - 150 Ohms", D22 FLASH_GOLDEN_N (in) "If pulled Low, this indicates that the device is to be re-programmed from an image in the external SPI flash attached to the SPI interface. If pulled High, the SPI is put into slave mode. Add an external pull-up resistor (See Datasheet)", P19 SC_SPI_SDO (out) "SPI data output", P20 SC_SPI_SS (in) "SPI slave select", R15 DEVRST_N (in) "Device reset; asserted Low and powered by VPP. It is a Schmitt trigger input. In unused condition, pull up to VPP through 10 KOhm resistor.", R20 SC_SPI_CLK (io) "SPI clock", R21 SC_SPI_SDI (in) "SPI data input"
part J pins: G8 CCC_NW1_PLL_VSSA (power) "VDDA to on-die VSSA high pass filter connection for PLL3", G9 CCC_NW1_PLL_VDDA (power) "Analog power pad for PLL3", H8 CCC_NW0_PLL_VDDA (power) "Analog power pad for PLL2", H15 CCC_NE0_PLL_VDDA (power) "Analog power pad for PLL0", H16 MSS_MDDR_PLL_VDDA (power) "Analog power pad for PLL of MDDR and MSS", H17 MSS_MDDR_PLL_VSSA (power) "Analog ground pad for PLL of MDDR and MSS", J8 CCC_NW0_PLL_VSSA (power) "VDDA to on-die VSSA high pass filter connection for PLL2", J15 CCC_NE0_PLL_VSSA (power) "VDDA to on-die VSSA high pass filter connection for PLL0", J16 CCC_NE1_PLL_VSSA (power) "VDDA to on-die VSSA high pass filter connection for PLL1", J17 CCC_NE1_PLL_VDDA (power) "Analog power pad for PLL1", R6 CCC_SW0_PLL_VSSA (power) "VDDA to on-die VSSA high pass filter connection for PLL4", R7 CCC_SW1_PLL_VDDA (power) "Analog power pad for PLL5", T5 CCC_SW0_PLL_VDDA (power) "Analog power pad for PLL4", T7 CCC_SW1_PLL_VSSA (power) "VDDA to on-die VSSA high pass filter connection for PLL5"
part K pins: G10 VREF0 (power) "Reference voltage for MDDR signals which are located in bank 0. When unused, VREF0 can be DNC or grounded (VSS).", G11 VREF0 (power) "Reference voltage for MDDR signals which are located in bank 0. When unused, VREF0 can be DNC or grounded (VSS).", G15 VREF0 (power) "Reference voltage for MDDR signals which are located in bank 0. When unused, VREF0 can be DNC or grounded (VSS).", H10 VDD (power) "DC core supply voltage. Must always power this pin.", J9 VDD (power) "DC core supply voltage. Must always power this pin.", J11 VDD (power) "DC core supply voltage. Must always power this pin.", J13 VDD (power) "DC core supply voltage. Must always power this pin.", K10 VDD (power) "DC core supply voltage. Must always power this pin.", K12 VDD (power) "DC core supply voltage. Must always power this pin.", K14 VDD (power) "DC core supply voltage. Must always power this pin.", L9 VDD (power) "DC core supply voltage. Must always power this pin.", L11 VDD (power) "DC core supply voltage. Must always power this pin.", L13 VDD (power) "DC core supply voltage. Must always power this pin.", L15 VPP (power) "Power supply for charge pumps (for normal operation and programming). Must always power this pin.", M10 VDD (power) "DC core supply voltage. Must always power this pin.", M12 VDD (power) "DC core supply voltage. Must always power this pin.", M14 VDD (power) "DC core supply voltage. Must always power this pin.", M15 VPPNVM (power) "Analog sense circuit supply of embedded nonvolatile memory (eNVM). Must be shorted to VPP.", N9 VDD (power) "DC core supply voltage. Must always power this pin.", N11 VDD (power) "DC core supply voltage. Must always power this pin.", N13 VDD (power) "DC core supply voltage. Must always power this pin.", P8 VDD (power) "DC core supply voltage. Must always power this pin.", P10 VDD (power) "DC core supply voltage. Must always power this pin.", P12 VDD (power) "DC core supply voltage. Must always power this pin.", P14 VDD (power) "DC core supply voltage. Must always power this pin.", P15 VPP (power) "Power supply for charge pumps (for normal operation and programming). Must always power this pin.", R8 VDD (power) "DC core supply voltage. Must always power this pin.", R11 VDD (power) "DC core supply voltage. Must always power this pin.", R13 VDD (power) "DC core supply voltage. Must always power this pin.", T8 VPP (power) "Power supply for charge pumps (for normal operation and programming). Must always power this pin.", T9 VDD (power) "DC core supply voltage. Must always power this pin.", T10 VDD (power) "DC core supply voltage. Must always power this pin.", T11 VREF5 (power) "Reference voltage for FDDR signals, which are located in bank 5. When unused, VREF5 can be DNC or grounded (VSS).", T12 VREF5 (power) "Reference voltage for FDDR signals, which are located in bank 5. When unused, VREF5 can be DNC or grounded (VSS).", U7 VDD (power) "DC core supply voltage. Must always power this pin.", U8 VDD (power) "DC core supply voltage. Must always power this pin.", U9 VPP (power) "Power supply for charge pumps (for normal operation and programming). Must always power this pin."